# EAGLE library part PINHD-1X13 (library pinhead-new)
PIN HEADER
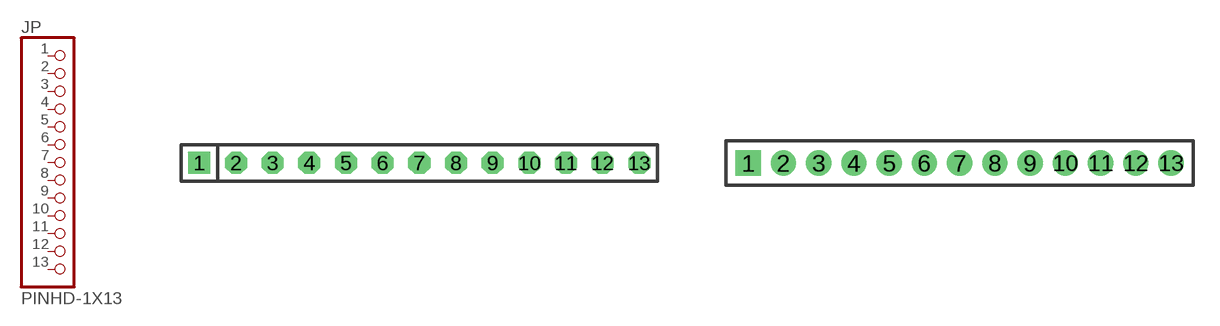
[diagram p6: symbol with the pads of 1X13; footprints 1X13, 1X13M]

Designator prefix JP

## PINHD-1X13  [1X13]
1  1  pas
2  2  pas
3  3  pas
4  4  pas
5  5  pas
6  6  pas
7  7  pas
8  8  pas
9  9  pas
10  10  pas
11  11  pas
12  12  pas
13  13  pas

## PINHD-1X13M  [1X13M]
Pads as for 1X13

## Footprint 1X13 (pad centres in mm)
PIN HEADER - 0.1"
drill 1.016 square: 1 -15.24,0
drill 1.016 octagon: 2 -12.7,0; 3 -10.16,0; 4 -7.62,0; 5 -5.08,0; 6 -2.54,0; 7 0,0; 8 2.54,0; 9 5.08,0; 10 7.62,0; 11 10.16,0; 12 12.7,0; 13 15.24,0

## Footprint 1X13M (pad centres in mm)
PIN HEADER - 2MM"
drill 0.914 square: 1 -12,0
drill 0.914 round: 2 -10,0; 3 -8,0; 4 -6,0; 5 -4,0; 6 -2,0; 7 0,0; 8 2,0; 9 4,0; 10 6,0; 11 8,0; 12 10,0; 13 12,0